# EAGLE library part C8051F410/1/2/3 (library silicon-labs)
MICROCONTROLLER 2.0 V, 32/16 kB Flash, smaRTClock, 12-bit ADC C8051F410/1/2/3
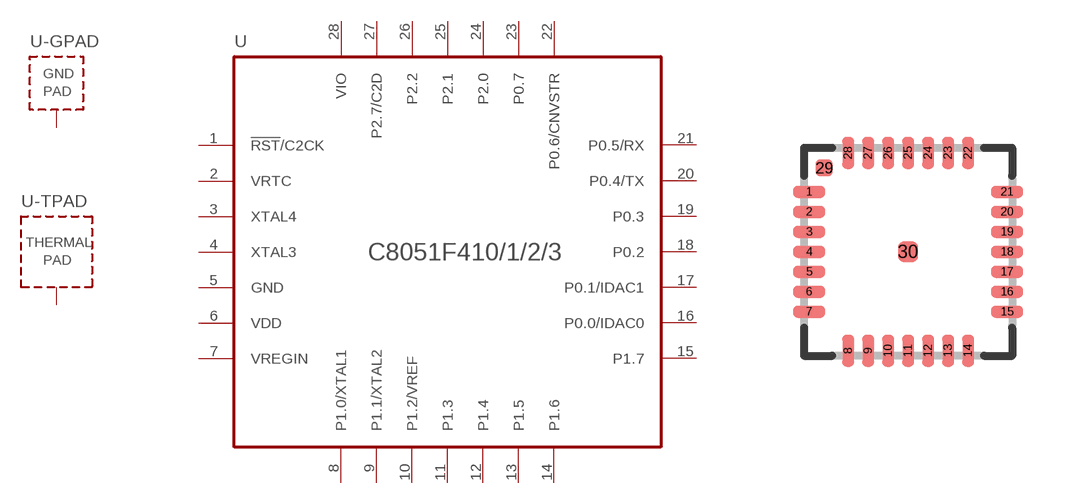
[diagram p3: symbol with the pads of QFN28; footprint QFN28]

Designator prefix U; gates G$1=C8051F410/1/2/3 -GPAD=GND-PAD -TPAD=THERMAL-PAD

## C8051F410/1/2/3  [QFN28]
1  G$1:!RST!/C2CK
2  G$1:VRTC
3  G$1:XTAL4
4  G$1:XTAL3
5  G$1:GND  pwr
6  G$1:VDD  pwr
7  G$1:VREGIN
8  G$1:P1.0/XTAL1
9  G$1:P1.1/XTAL2
10  G$1:P1.2/VREF
11  G$1:P1.3
12  G$1:P1.4
13  G$1:P1.5
14  G$1:P1.6
15  G$1:P1.7
16  G$1:P0.0/IDAC0
17  G$1:P0.1/IDAC1
18  G$1:P0.2
19  G$1:P0.3
20  G$1:P0.4/TX
21  G$1:P0.5/RX
22  G$1:P0.6/CNVSTR
23  G$1:P0.7
24  G$1:P2.0
25  G$1:P2.1
26  G$1:P2.2
27  G$1:P2.7/C2D
28  G$1:VIO
29  -GPAD:P$1  pas
30  -TPAD:P$1  pas

## Footprint QFN28 (pad centres in mm)
QFN28 5x5 mm body
smd 0.8 x 0.3: 1 -2.475,1.5; 2 -2.475,1; 3 -2.475,0.5; 4 -2.475,0; 5 -2.475,-0.5; 6 -2.475,-1; 7 -2.475,-1.5; 15 2.475,-1.5; 16 2.475,-1; 17 2.475,-0.5; 18 2.475,0; 19 2.475,0.5; 20 2.475,1; 21 2.475,1.5
smd 0.3 x 0.8: 8 -1.5,-2.475; 9 -1,-2.475; 10 -0.5,-2.475; 11 0,-2.475; 12 0.5,-2.475; 13 1,-2.475; 14 1.5,-2.475; 22 1.5,2.475; 23 1,2.475; 24 0.5,2.475; 25 0,2.475; 26 -0.5,2.475; 27 -1,2.475; 28 -1.5,2.475
smd 0.435 x 0.435: 29 -2.1,2.1
smd 0.5 x 0.5: 30 0,0